# Altium schematic symbol library eeprom.SchLib: 1 symbol
Pins are listed as number, name and electrical type; pins without a type are passive.

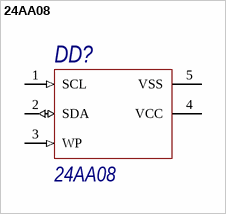
[diagram p0: symbol 24AA08]

## 24AA08
designator DD?
8K I2C Serial EEPROM; Name: 24AA08; Value: *
footprint SOT95P245X145-5N (SOT23, 5-Leads, Body 2,90x2,45mm, Pitch 0,95mm, IPC Medium Density)
pins: 1 SCL (in), 2 SDA (io), 3 WP (in), 4 VCC (power), 5 VSS (power)